# Altium schematic symbol library AD7314.SchLib: 1 symbol
Pins are listed as number, name and electrical type; pins without a type are passive.

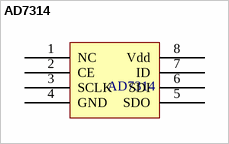
[diagram p0: symbol AD7314]

## AD7314
designator AD7314, comment SPI Temp Sensor  (value not drawn)
SPI Temp Sensor (8-lead MSOP
pins: 1 NC, 2 CE, 3 SCLK, 4 GND, 5 SDO, 6 SDI, 7 ID, 8 Vdd